# EAGLE library part NRF24L01 (library NRF24L01)
The nRF24L01 is a single chip 2.4GHz transceiver with an embedded baseband protocol engine (Enhanced ShockBurst™), designed for ultra low power wireless applications. The nRF24L01 is designed for operation in the world wide ISM frequency band at 2.400 - 2.4835GHz. An MCU (microcontroller) and very few external passive components are needed to design a radio system with the nRF24L01. The nRF24L01 is configured and operated through a Serial Peripheral Interface (SPI.) Through this interface the register map is available. The register map contains all configuration registers in the nRF24L01 and is accessible in all operation modes of the chip.
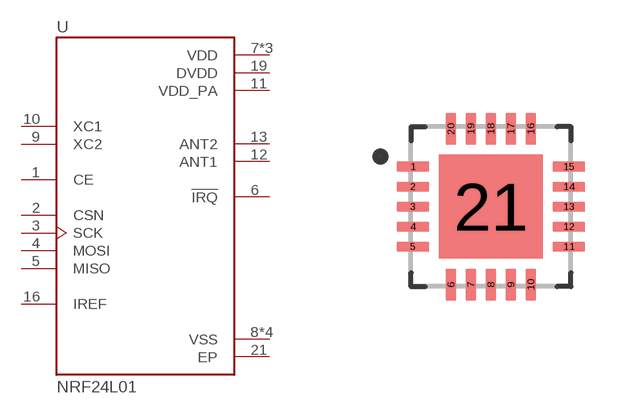
[diagram p0: symbol with the pads of QFN50P400X400X95-21N; footprint QFN50P400X400X95-21N]

Designator prefix U

## NRF24L01 (Availability: Unavailable; Description: ULTRA LOW POWER TRANSCEIVER 2.4 RoHSconf; MF: Nordic; MP: NRF24L01; Package: VFQFN-20 Nordic Semiconductor; Price: None)  [QFN50P400X400X95-21N]
1  CE  in
2  CSN  in
3  SCK  in
4  MOSI  in
5  MISO  out
6  !IRQ  out
7  VDD  pwr
8  VSS  pwr
9  XC2  out
10  XC1  in
11  VDD_PA  pwr
12  ANT1
13  ANT2
14  VSS  pwr
15  VDD  pwr
16  IREF  in
17  VSS  pwr
18  VDD  pwr
19  DVDD  pwr
20  VSS  pwr
21  EP  pwr

## Footprint QFN50P400X400X95-21N (pad centres in mm)
smd 0.81 x 0.26: 1 -1.95,1; 2 -1.95,0.5; 3 -1.95,0; 4 -1.95,-0.5; 5 -1.95,-1; 11 1.95,-1; 12 1.95,-0.5; 13 1.95,0; 14 1.95,0.5; 15 1.95,1
smd 0.26 x 0.81: 6 -1,-1.95; 7 -0.5,-1.95; 8 0,-1.95; 9 0.5,-1.95; 10 1,-1.95; 16 1,1.95; 17 0.5,1.95; 18 0,1.95; 19 -0.5,1.95; 20 -1,1.95
smd 2.6 x 2.6: 21 0,0